# EAGLE library part GL811E (library GenesisLogic)
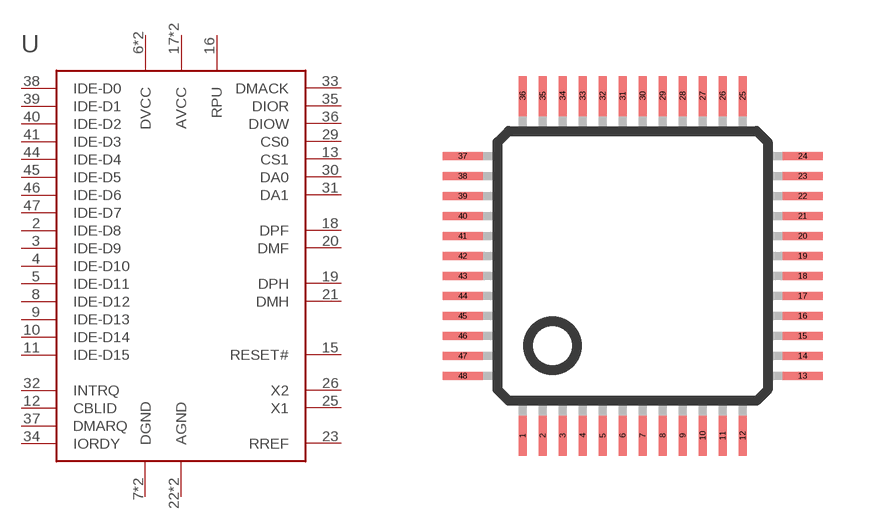
[diagram p0: symbol with the pads of LQFP-48; footprint LQFP-48]

Designator prefix -

## GL811E  [LQFP-48]
2  IDE-D8
3  IDE-D9
4  IDE-D10
5  IDE-D11
6  DVCC
7  DGND
8  IDE-D12
9  IDE-D13
10  IDE-D14
11  IDE-D15
12  CBLID
13  CS1
15  RESET#
16  RPU
17  AVCC
18  DPF
19  DPH
20  DMF
21  DMH
22  AGND
23  RREF
24  AVCC
25  X1
26  X2
27  AGND
29  CS0
30  DA0
31  DA1
32  INTRQ
33  DMACK
34  IORDY
35  DIOR
36  DIOW
37  DMARQ
38  IDE-D0
39  IDE-D1
40  IDE-D2
41  IDE-D3
42  DGND
43  DVCC
44  IDE-D4
45  IDE-D5
46  IDE-D6
47  IDE-D7

## Footprint LQFP-48 (pad centres in mm)
smd 0.2 x 1: 1 -2.75,-4.25; 2 -2.25,-4.25; 3 -1.75,-4.25; 4 -1.25,-4.25; 5 -0.75,-4.25; 6 -0.25,-4.25; 7 0.25,-4.25; 8 0.75,-4.25; 9 1.25,-4.25; 10 1.75,-4.25; 11 2.25,-4.25; 12 2.75,-4.25; 25 2.75,4.25; 26 2.25,4.25; 27 1.75,4.25; 28 1.25,4.25; 29 0.75,4.25; 30 0.25,4.25; 31 -0.25,4.25; 32 -0.75,4.25; 33 -1.25,4.25; 34 -1.75,4.25; 35 -2.25,4.25; 36 -2.75,4.25
smd 1 x 0.2: 13 4.25,-2.75; 14 4.25,-2.25; 15 4.25,-1.75; 16 4.25,-1.25; 17 4.25,-0.75; 18 4.25,-0.25; 19 4.25,0.25; 20 4.25,0.75; 21 4.25,1.25; 22 4.25,1.75; 23 4.25,2.25; 24 4.25,2.75; 37 -4.25,2.75; 38 -4.25,2.25; 39 -4.25,1.75; 40 -4.25,1.25; 41 -4.25,0.75; 42 -4.25,0.25; 43 -4.25,-0.25; 44 -4.25,-0.75; 45 -4.25,-1.25; 46 -4.25,-1.75; 47 -4.25,-2.25; 48 -4.25,-2.75